# Altium schematic symbol library MCP3221A5T-EOT.SchLib: 1 symbol
Pins are listed as number, name and electrical type; pins without a type are passive.

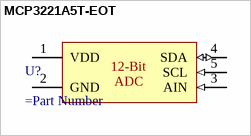
[diagram p0: symbol MCP3221A5T-EOT]

## MCP3221A5T-EOT
designator U?
=Description
pins: 1 VDD (power), 2 GND (power), 3 AIN (in), 4 SDA (io), 5 SCL (in)
text: 12-Bit / ADC